# EAGLE library part SMD.1X6 (library untitled)
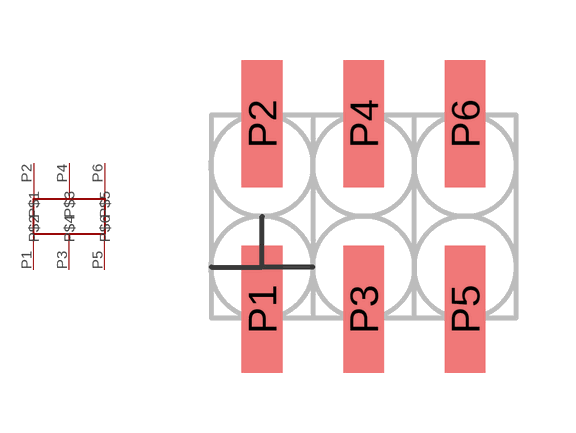
[diagram p6: symbol with the pads of SMD0.1X6; footprint SMD0.1X6]

Designator prefix -

## SMD.1X6  [SMD0.1X6]
P1  P$1
P2  P$2
P3  P$3
P4  P$4
P5  P$5
P6  P$6

## Footprint SMD0.1X6 (pad centres in mm)
smd 1.02 x 3.18: P1 -2.54,-2.32; P2 -2.54,2.32; P3 0,-2.32; P4 0,2.32; P5 2.54,-2.32; P6 2.54,2.32